# Altium schematic symbol library PinHeader.SchLib: 7 symbols
Pins are listed as number, name and electrical type; pins without a type are passive.

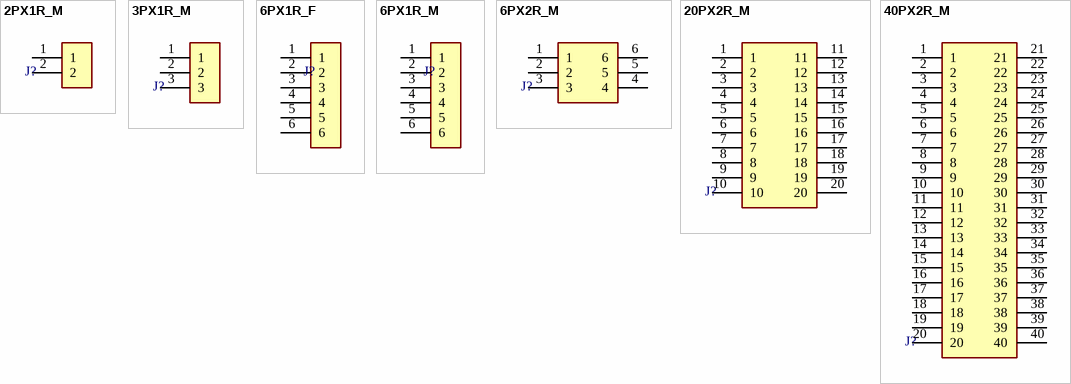
[diagram p0: symbols 2PX1R_M to 40PX2R_M]

## 2PX1R_M
designator J?
2PX1R Male Header; Manufacturer 1: *; Manufacturer Part Number 1: *; Package: *; Supplier 1: *; Supplier Part Number 1: *
footprint 2PX1R
footprint 2PX1R_SMD (SMD PIN HEADER 1x2P)
pins: 1, 2

## 3PX1R_M
designator J?
3PX1R Male Header; Package: *; Manufacturer 1: *; Manufacturer Part Number 1: *; Supplier 1: *; Supplier Part Number 1: *
footprint 3PX1R_THT
footprint 3PX1R_SMD (SMD PIN HEADER 1x3P)
pins: 1, 2, 3

## 6PX1R_F
designator J?, comment ERP_148-2  (value not drawn)
6PX1R Female Header; Value: *; Manufacturer 1: *; Manufacturer Part Number 1: *
footprint 6PX1R_F
pins: 1, 2, 3, 4, 5, 6

## 6PX1R_M
designator J?
6PX1R Male Header; Package: *; Manufacturer 1: *; Manufacturer Part Number 1: *; Supplier 1: *; Supplier Part Number 1: *
footprint 6PX1R_M_STK20
footprint 6PX1R_M
pins: 1, 2, 3, 4, 5, 6

## 6PX2R_M
designator J?
6PX2R Male Header; Value: *; Manufacturer 1: *; Manufacturer Part Number 1: *
footprint 6PX2R_M_SMD (Footprint not found)
pins: 1, 2, 3, 4, 5, 6

## 20PX2R_M
designator J?
Berg Connector Header 20 Position 0.100" (2.54mm); Package: *; Manufacturer 1: *; Manufacturer Part Number 1: *; Supplier 1: *; Supplier Part Number 1: *
footprint 20PX2R_Male_SMD_Shrouded
footprint 20PX2R_Male_THT_Shrouded
footprint HB-PH9-254210PB2GOP (SMD PIN HEADER 2x10P)
footprint 20PX2R_Female_SMD_Shrouded
pins: 1, 2, 3, 4, 5, 6, 7, 8, 9, 10, 11, 12, 13, 14, 15, 16, 17, 18, 19, 20

## 40PX2R_M
designator J?
Berg Connector Header 40 Position 0.100" (2.54mm); Supplier 1: *; Manufacturer 1: *; Manufacturer Part Number 1: *; Supplier Part Number 1: *; Package: *
footprint 40PX2R_Male_THT
footprint HB-PH9-254220PB2GOW (SMD PIN HEADER 2x20P)
pins: 1, 2, 3, 4, 5, 6, 7, 8, 9, 10, 11, 12, 13, 14, 15, 16, 17, 18, 19, 20, 21, 22, 23, 24, 25, 26, 27, 28, 29, 30, 31, 32, 33, 34, 35, 36, 37, 38, 39, 40